# Altium footprint library 50PTS_CF-N7E50-3M.PcbLib: 1 footprints
Each footprint in its own frame and in the unit in brackets; x right, y up, seen from the top. Pads: shape width x height; smd on the part's side, far side on the other; paste and mask are expansions set on the pad; w line width, h text height; cw(c..) or ccw(c..) is an arc to the next point about the centre after c.
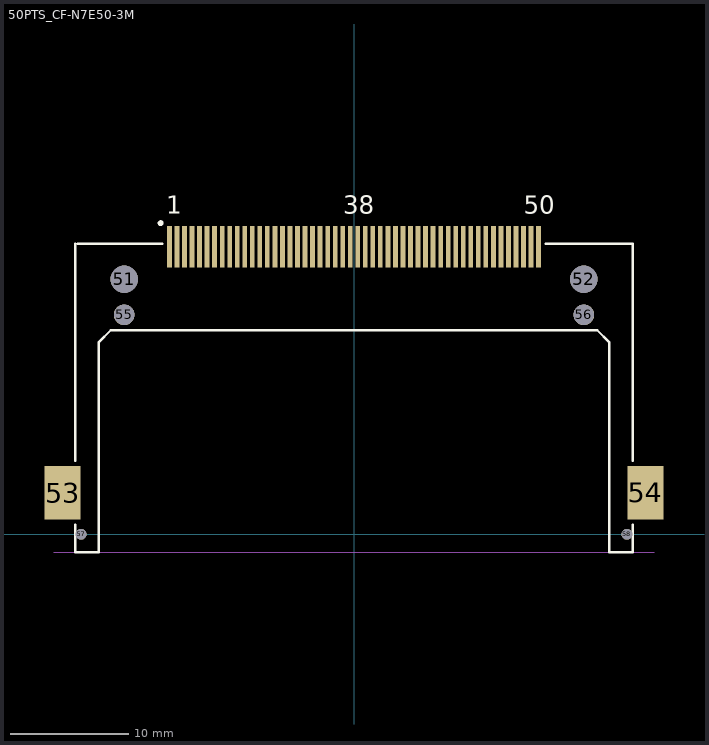
[diagram p0: the footprint, top view; thin cyan lines are the x and y axes]

## 50PTS_CF-N7E50-3M [mm] "Connector; CompactFlash Card Header, SM; Normal Polarization; 50 Position; Right Angle; Pitch 0.635 mm"
height 6.72
pads (58):
  rect 0.4x3.5 smd: 1(-15.557,24.25) 2(-14.287,24.25) 3(-13.017,24.25) 4(-11.747,24.25) 5(-10.477,24.25) 6(-9.207,24.25) 7(-7.937,24.25) 8(-6.667,24.25) 9(-5.397,24.25) 10(-4.127,24.25) 11(-2.857,24.25) 12(-1.587,24.25) 13(-0.317,24.25) 14(0.953,24.25) 15(2.223,24.25) 16(3.493,24.25) 17(4.763,24.25) 18(6.033,24.25) 19(7.303,24.25) 20(8.573,24.25) 21(9.843,24.25) 22(11.113,24.25) 23(12.383,24.25) 24(13.653,24.25) 25(14.923,24.25) 26(-14.922,24.25) 27(-13.652,24.25) 28(-12.383,24.25) 29(-11.112,24.25) 30(-9.842,24.25) 31(-8.572,24.25) 32(-7.302,24.25) 33(-6.032,24.25) 34(-4.762,24.25) 35(-3.492,24.25) 36(-2.222,24.25) 37(-0.952,24.25) 38(0.318,24.25) 39(1.588,24.25) 40(2.858,24.25) 41(4.128,24.25) 42(5.398,24.25) 43(6.668,24.25) 44(7.938,24.25) 45(9.208,24.25) 46(10.478,24.25) 47(11.748,24.25) 48(13.018,24.25) 49(14.288,24.25) 50(15.558,24.25)
  round 2.3 hole 2.3 unplated: 51(-19.37,21.5)
  round 2.3 hole 2.3: 52(19.37,21.5)
  rect 3x4.5 smd: 53(-24.565,3.5) 54(24.565,3.5)
  round 1.75 hole 1.75 unplated: 55(-19.37,18.5) 56(19.37,18.5)
  round 0.9 hole 0.9 unplated: 57(-23,0) 58(23,0)
Top Overlay:
  circle w0.25: c-16.3,26.223 r0.125
  lines w0.2: -23.5,0.8 -23.5,-1.5 -21.5,-1.5 -21.5,16.2 -20.5,17.2 20.5,17.2 21.5,16.2 21.5,-1.5 23.5,-1.5 ; -23.5,6.2 -23.5,24.5 ; -23.3,24.5 -16.16,24.5 ; 16.16,24.5 23.5,24.5 ; 23.495,-1.5 23.495,0.8 ; 23.495,6.2 23.495,24.5
  text "50" at 14.308,27.023 h1.5
  text "1" at -15.807,27.023 h1.5
  text "38" at -0.907,27.023 h1.5
Mechanical 1:
  lines w0.1: -25.3,-1.5 25.3,-1.5
  text "PCB Edge" at -17.3,-1.127 h0.6